# Altium schematic symbol library M20-9990246.SchLib: 1 symbol
Pins are listed as number, name and electrical type; pins without a type are passive.

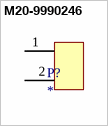
[diagram p0: symbol M20-9990246]

## M20-9990246
designator P?
VCC Power Port Male
pins: 1, 2